# Altium footprint library 7.接插件封装.PcbLib: 201 footprints (part 5 of 13)
Each footprint in its own frame and in the unit in brackets; x right, y up, seen from the top. Pads: shape width x height; smd on the part's side, far side on the other; paste and mask are expansions set on the pad; w line width, h text height; cw(c..) or ccw(c..) is an arc to the next point about the centre after c.
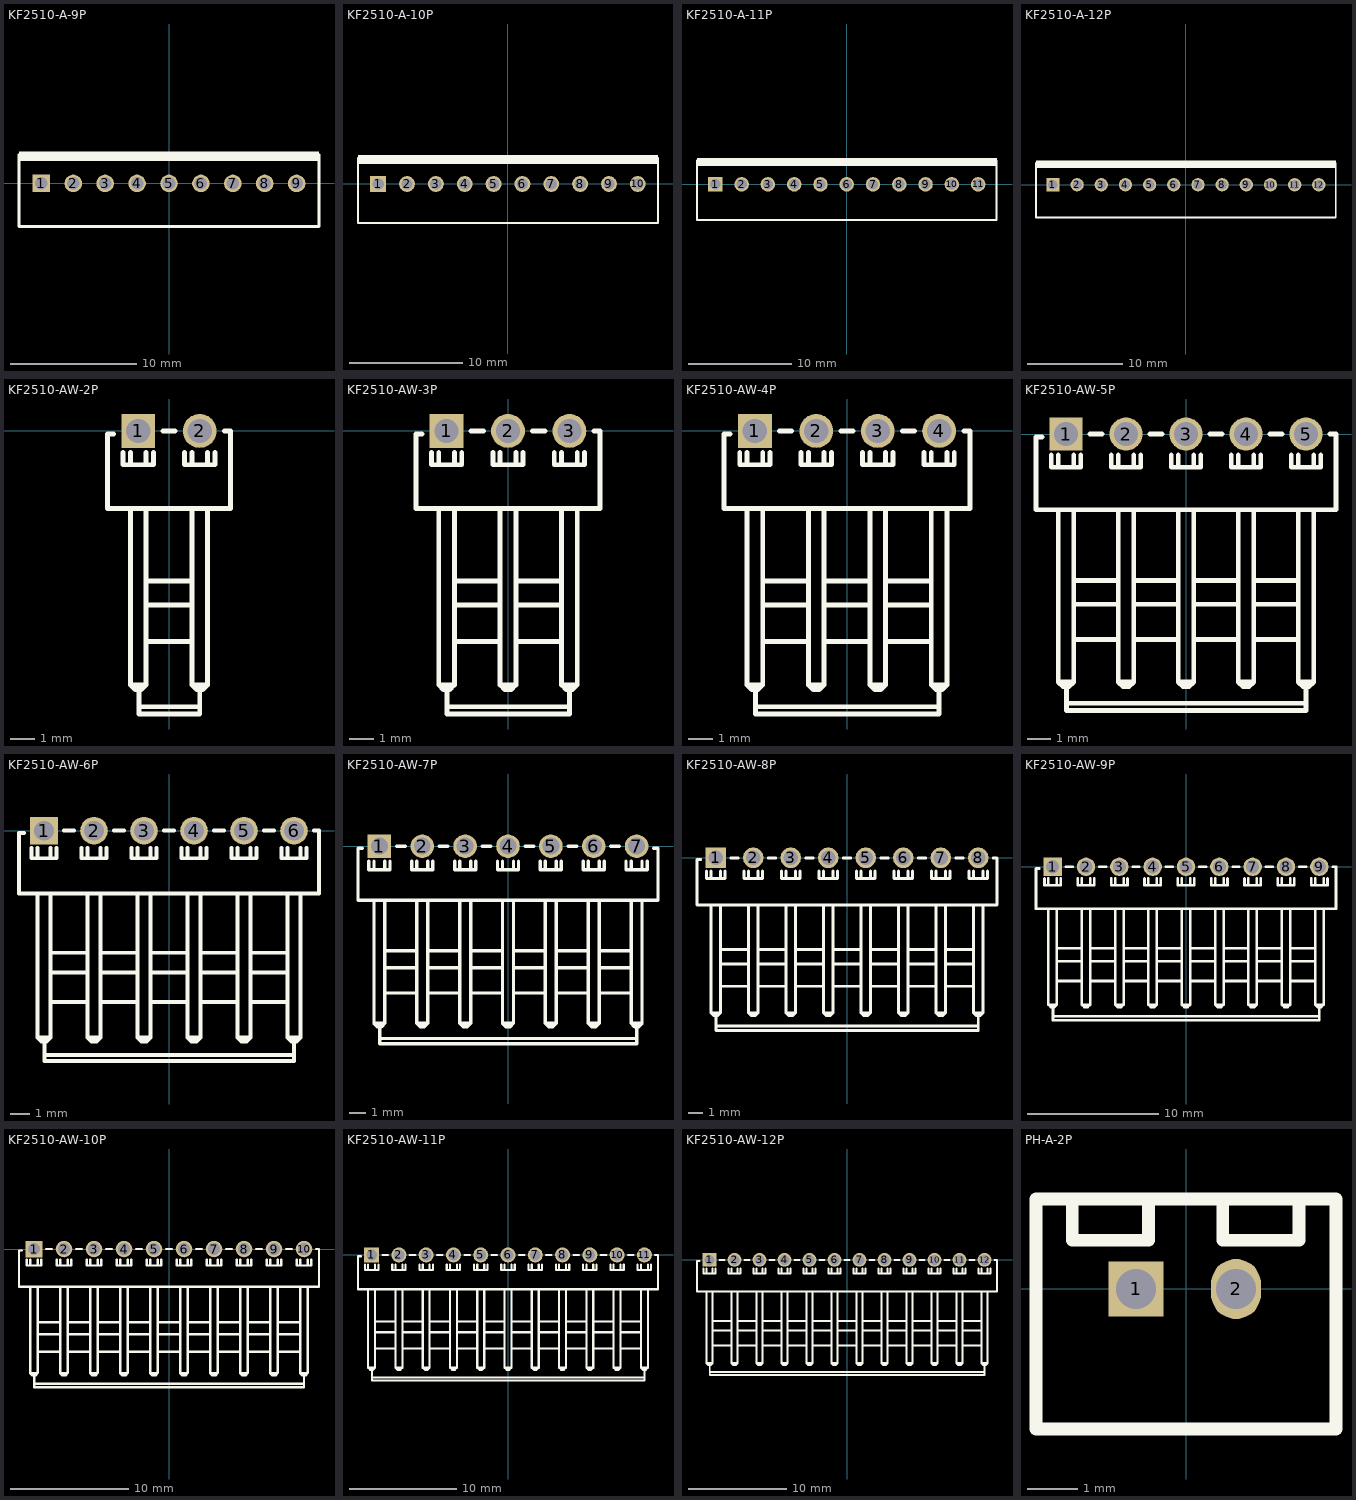
[diagram p4: the footprints below, top view; thin cyan lines are the x and y axes]

## KF2510-A-9P [mm]
pads (9):
  rect 1.4x1.4 hole 1: 1(-10.16,0)
  round 1.4 hole 1: 2(-7.62,0) 3(-5.08,0) 4(-2.54,0) 5(0,0) 6(2.54,0) 7(5.08,0) 8(7.62,0) 9(10.16,0)
Top Overlay:
  rectangle: -11.938,1.778 11.938,2.54
  lines w0.2: -11.938,2.286 -11.938,-3.429 11.938,-3.429 11.938,2.286

## KF2510-A-10P [mm]
pads (10):
  rect 1.4x1.4 hole 1: 1(-11.43,0)
  round 1.4 hole 1: 2(-8.89,0) 3(-6.35,0) 4(-3.81,0) 5(-1.27,0) 6(1.27,0) 7(3.81,0) 8(6.35,0) 9(8.89,0) 10(11.43,0)
Top Overlay:
  rectangle: -13.208,1.778 13.208,2.54
  lines w0.2: -13.208,2.286 -13.208,-3.429 13.208,-3.429 13.208,2.286

## KF2510-A-11P [mm]
pads (11):
  rect 1.4x1.4 hole 1: 1(-12.7,0)
  round 1.4 hole 1: 2(-10.16,0) 3(-7.62,0) 4(-5.08,0) 5(-2.54,0) 6(0,0) 7(2.54,0) 8(5.08,0) 9(7.62,0) 10(10.16,0) 11(12.7,0)
Top Overlay:
  rectangle: -14.478,1.778 14.529,2.54
  lines w0.2: -14.478,2.286 -14.478,-3.429 14.478,-3.429 14.478,2.286

## KF2510-A-12P [mm]
pads (12):
  rect 1.4x1.4 hole 1: 1(-13.97,0)
  round 1.4 hole 1: 2(-11.43,0) 3(-8.89,0) 4(-6.35,0) 5(-3.81,0) 6(-1.27,0) 7(1.27,0) 8(3.81,0) 9(6.35,0) 10(8.89,0) 11(11.43,0) 12(13.97,0)
Top Overlay:
  rectangle: -15.748,1.778 15.773,2.54
  lines w0.2: -15.748,2.286 -15.748,-3.429 15.748,-3.429 15.748,2.286

## KF2510-AW-2P [mm]
pads (2):
  rect 1.4x1.4 hole 1: 1(-1.27,0)
  round 1.4 hole 1: 2(1.27,0)
Top Overlay:
  lines w0.2: -2.286,-0.127 -2.54,-0.127 -2.54,-3.2 2.54,-3.2 2.54,-0.025 ; -1.895,-0.889 -1.895,-1.4 -0.645,-1.4 -0.645,-0.889 ; -1.595,-3.2 -1.595,-10.5 ; -1.595,-1.4 -1.595,-0.889 ; -1.245,-11.4 1.24,-11.4 ; -1.245,-10.7 -1.245,-11.7 1.261,-11.7 ; -0.945,-8.7 0.945,-8.7 ; -0.945,-7.2 0.945,-7.2 ; -0.945,-6.2 0.945,-6.2 ; -0.945,-3.2 -0.945,-10.5 ; -0.945,-1.4 -0.945,-0.889 ; -0.254,0 0.254,0 ; 0.645,-0.889 0.645,-1.4 ; 0.945,-1.4 0.945,-0.889 ; 1.27,-11.702 1.27,-10.592 ; 1.595,-1.4 1.595,-0.889 ; 1.895,-0.889 1.895,-1.4 ; 2.286,0 2.54,0 ; -1.595,-10.5 -1.395,-10.7 -1.145,-10.7 -0.945,-10.5 ; -1.595,-10.5 -0.945,-10.5 ; 0.645,-1.4 1.895,-1.4 ; 0.645,-1.4 1.895,-1.4 ; 0.945,-10.5 1.145,-10.7 ; 0.945,-10.5 1.595,-10.5 ; 0.945,-10.5 0.945,-3.2 0.945,-10.5 ; 0.945,-10.5 1.595,-10.5 ; 0.945,-10.5 1.145,-10.7 ; 1.145,-10.7 1.395,-10.7 ; 1.145,-10.7 1.395,-10.7 ; 1.395,-10.7 1.595,-10.5 ; 1.395,-10.7 1.595,-10.5 ; 1.595,-10.5 1.595,-3.2 1.595,-10.5

## KF2510-AW-3P [mm]
pads (3):
  rect 1.4x1.4 hole 1: 1(-2.54,0)
  round 1.4 hole 1: 2(0,0) 3(2.54,0)
Top Overlay:
  lines w0.2: -3.556,-0.127 -3.81,-0.127 -3.81,-3.2 3.785,-3.2 ; -3.165,-0.889 -3.165,-1.4 -1.915,-1.4 -1.915,-0.889 ; -2.865,-3.2 -2.865,-10.5 ; -2.865,-1.4 -2.865,-0.889 ; -2.515,-11.4 2.51,-11.4 ; -2.515,-10.7 -2.515,-11.7 2.531,-11.7 ; -2.215,-8.7 -0.325,-8.7 ; -2.215,-7.2 -0.325,-7.2 ; -2.215,-6.2 -0.325,-6.2 ; -2.215,-3.2 -2.215,-10.5 ; -2.215,-1.4 -2.215,-0.889 ; -1.524,0 -1.016,0 ; -0.625,-0.889 -0.625,-1.4 0.625,-1.4 0.625,-0.889 ; -0.325,-3.2 -0.325,-10.5 ; -0.325,-1.4 -0.325,-0.889 ; 0.325,-8.7 2.215,-8.7 ; 0.325,-7.2 2.215,-7.2 ; 0.325,-6.2 2.215,-6.2 ; 0.325,-3.2 0.325,-10.5 ; 0.325,-1.4 0.325,-0.889 ; 1.016,0 1.524,0 ; 1.915,-0.889 1.915,-1.4 ; 2.215,-1.4 2.215,-0.889 ; 2.54,-11.702 2.54,-10.592 ; 2.865,-1.4 2.865,-0.889 ; 3.165,-0.889 3.165,-1.4 ; 3.556,0 3.81,0 ; 3.81,-3.2 3.81,-0.025 ; -2.865,-10.5 -2.665,-10.7 -2.415,-10.7 -2.215,-10.5 ; -2.865,-10.5 -2.215,-10.5 ; -0.325,-10.5 -0.125,-10.7 0.125,-10.7 0.325,-10.5 ; -0.325,-10.5 0.325,-10.5 ; 1.915,-1.4 3.165,-1.4 ; 1.915,-1.4 3.165,-1.4 ; 2.215,-10.5 2.415,-10.7 ; 2.215,-10.5 2.865,-10.5 ; 2.215,-10.5 2.215,-3.2 2.215,-10.5 ; 2.215,-10.5 2.865,-10.5 ; 2.215,-10.5 2.415,-10.7 ; 2.415,-10.7 2.665,-10.7 ; 2.415,-10.7 2.665,-10.7 ; 2.665,-10.7 2.865,-10.5 ; 2.665,-10.7 2.865,-10.5 ; 2.865,-10.5 2.865,-3.2 2.865,-10.5

## KF2510-AW-4P [mm]
pads (4):
  rect 1.4x1.4 hole 1: 1(-3.81,0)
  round 1.4 hole 1: 2(-1.27,0) 3(1.27,0) 4(3.81,0)
Top Overlay:
  lines w0.2: -4.826,-0.127 -5.08,-0.127 -5.08,-3.2 5.055,-3.2 ; -4.435,-0.889 -4.435,-1.4 -3.185,-1.4 -3.185,-0.889 ; -4.135,-3.2 -4.135,-10.5 ; -4.135,-1.4 -4.135,-0.889 ; -3.785,-11.4 3.81,-11.4 ; -3.785,-10.7 -3.785,-11.7 3.785,-11.7 ; -3.485,-8.7 -1.595,-8.7 ; -3.485,-7.2 -1.595,-7.2 ; -3.485,-6.2 -1.595,-6.2 ; -3.485,-3.2 -3.485,-10.5 ; -3.485,-1.4 -3.485,-0.889 ; -2.794,0 -2.286,0 ; -1.895,-0.889 -1.895,-1.4 -0.645,-1.4 -0.645,-0.889 ; -1.595,-3.2 -1.595,-10.5 ; -1.595,-1.4 -1.595,-0.889 ; -0.945,-8.7 0.945,-8.7 ; -0.945,-7.2 0.945,-7.2 ; -0.945,-6.2 0.945,-6.2 ; -0.945,-3.2 -0.945,-10.5 ; -0.945,-1.4 -0.945,-0.889 ; -0.254,0 0.254,0 ; 0.645,-0.889 0.645,-1.4 1.895,-1.4 1.895,-0.889 ; 0.945,-3.2 0.945,-10.5 ; 0.945,-1.4 0.945,-0.889 ; 1.595,-8.7 3.485,-8.7 ; 1.595,-7.2 3.485,-7.2 ; 1.595,-6.2 3.485,-6.2 ; 1.595,-3.2 1.595,-10.5 ; 1.595,-1.4 1.595,-0.889 ; 2.286,0 2.794,0 ; 3.185,-0.889 3.185,-1.4 ; 3.485,-1.4 3.485,-0.889 ; 3.81,-11.702 3.81,-10.592 ; 4.135,-1.4 4.135,-0.889 ; 4.435,-0.889 4.435,-1.4 ; 4.826,0 5.08,0 ; 5.08,-3.2 5.08,-0.025 ; -4.135,-10.5 -3.485,-10.5 ; -4.135,-10.5 -3.935,-10.7 -3.685,-10.7 -3.485,-10.5 ; -1.595,-10.5 -0.945,-10.5 ; -1.595,-10.5 -1.395,-10.7 -1.145,-10.7 -0.945,-10.5 ; 0.945,-10.5 1.595,-10.5 ; 0.945,-10.5 1.145,-10.7 1.395,-10.7 1.595,-10.5 ; 3.185,-1.4 4.435,-1.4 ; 3.185,-1.4 4.435,-1.4 ; 3.485,-10.5 3.685,-10.7 ; 3.485,-10.5 4.135,-10.5 ; 3.485,-10.5 3.485,-3.2 3.485,-10.5 ; 3.485,-10.5 4.135,-10.5 ; 3.485,-10.5 3.685,-10.7 ; 3.685,-10.7 3.935,-10.7 ; 3.685,-10.7 3.935,-10.7 ; 3.935,-10.7 4.135,-10.5 ; 3.935,-10.7 4.135,-10.5 ; 4.135,-10.5 4.135,-3.2 4.135,-10.5

## KF2510-AW-5P [mm]
pads (5):
  rect 1.4x1.4 hole 1: 1(-5.08,0)
  round 1.4 hole 1: 2(-2.54,0) 3(0,0) 4(2.54,0) 5(5.08,0)
Top Overlay:
  lines w0.2: -6.096,-0.127 -6.35,-0.127 -6.35,-3.2 6.35,-3.2 6.35,-0.025 ; -5.705,-0.889 -5.705,-1.4 -4.455,-1.4 -4.455,-0.889 ; -5.405,-3.2 -5.405,-10.5 ; -5.405,-1.4 -5.405,-0.889 ; -5.055,-11.4 5.08,-11.4 ; -5.055,-10.7 -5.055,-11.7 5.08,-11.7 ; -4.755,-8.7 -2.865,-8.7 ; -4.755,-7.2 -2.865,-7.2 ; -4.755,-6.2 -2.865,-6.2 ; -4.755,-3.2 -4.755,-10.5 ; -4.755,-1.4 -4.755,-0.889 ; -4.064,0 -3.556,0 ; -3.165,-0.889 -3.165,-1.4 -1.915,-1.4 -1.915,-0.889 ; -2.865,-3.2 -2.865,-10.5 ; -2.865,-1.4 -2.865,-0.889 ; -2.215,-8.7 -0.325,-8.7 ; -2.215,-7.2 -0.325,-7.2 ; -2.215,-6.2 -0.325,-6.2 ; -2.215,-3.2 -2.215,-10.5 ; -2.215,-1.4 -2.215,-0.889 ; -1.524,0 -1.016,0 ; -0.625,-0.889 -0.625,-1.4 0.625,-1.4 0.625,-0.889 ; -0.325,-3.2 -0.325,-10.5 ; -0.325,-1.4 -0.325,-0.889 ; 0.325,-8.7 2.215,-8.7 ; 0.325,-7.2 2.215,-7.2 ; 0.325,-6.2 2.215,-6.2 ; 0.325,-3.2 0.325,-10.5 ; 0.325,-1.4 0.325,-0.889 ; 1.016,0 1.524,0 ; 1.915,-0.889 1.915,-1.4 3.165,-1.4 3.165,-0.889 ; 2.215,-3.2 2.215,-10.5 ; 2.215,-1.4 2.215,-0.889 ; 2.865,-8.7 4.755,-8.7 ; 2.865,-7.2 4.755,-7.2 ; 2.865,-6.2 4.755,-6.2 ; 2.865,-3.2 2.865,-10.5 ; 2.865,-1.4 2.865,-0.889 ; 3.556,0 4.064,0 ; 4.455,-0.889 4.455,-1.4 ; 4.755,-1.4 4.755,-0.889 ; 5.08,-11.702 5.08,-10.592 ; 5.405,-1.4 5.405,-0.889 ; 5.705,-0.889 5.705,-1.4 ; 6.096,0 6.35,0 ; -5.405,-10.5 -5.205,-10.7 -4.955,-10.7 -4.755,-10.5 ; -5.405,-10.5 -4.755,-10.5 ; -2.865,-10.5 -2.665,-10.7 -2.415,-10.7 -2.215,-10.5 ; -2.865,-10.5 -2.215,-10.5 ; -0.325,-10.5 -0.125,-10.7 0.125,-10.7 0.325,-10.5 ; -0.325,-10.5 0.325,-10.5 ; 2.215,-10.5 2.865,-10.5 ; 2.215,-10.5 2.415,-10.7 2.665,-10.7 2.865,-10.5 ; 4.455,-1.4 5.705,-1.4 ; 4.455,-1.4 5.705,-1.4 ; 4.755,-10.5 4.955,-10.7 ; 4.755,-10.5 5.405,-10.5 ; 4.755,-10.5 4.755,-3.2 4.755,-10.5 ; 4.755,-10.5 5.405,-10.5 ; 4.755,-10.5 4.955,-10.7 ; 4.955,-10.7 5.205,-10.7 ; 4.955,-10.7 5.205,-10.7 ; 5.205,-10.7 5.405,-10.5 ; 5.205,-10.7 5.405,-10.5 ; 5.405,-10.5 5.405,-3.2 5.405,-10.5

## KF2510-AW-6P [mm]
pads (6):
  rect 1.4x1.4 hole 1: 1(-6.35,0)
  round 1.4 hole 1: 2(-3.81,0) 3(-1.27,0) 4(1.27,0) 5(3.81,0) 6(6.35,0)
Top Overlay:
  lines w0.2: -7.366,-0.127 -7.62,-0.127 -7.62,-3.2 7.62,-3.2 7.62,-0.025 ; -6.975,-0.889 -6.975,-1.4 -5.725,-1.4 -5.725,-0.889 ; -6.675,-3.2 -6.675,-10.5 ; -6.675,-1.4 -6.675,-0.889 ; -6.325,-11.4 6.35,-11.4 ; -6.325,-10.7 -6.325,-11.7 6.35,-11.7 ; -6.025,-8.7 -4.135,-8.7 ; -6.025,-7.2 -4.135,-7.2 ; -6.025,-6.2 -4.135,-6.2 ; -6.025,-3.2 -6.025,-10.5 ; -6.025,-1.4 -6.025,-0.889 ; -5.334,0 -4.826,0 ; -4.435,-0.889 -4.435,-1.4 -3.185,-1.4 -3.185,-0.889 ; -4.135,-3.2 -4.135,-10.5 ; -4.135,-1.4 -4.135,-0.889 ; -3.485,-8.7 -1.595,-8.7 ; -3.485,-7.2 -1.595,-7.2 ; -3.485,-6.2 -1.595,-6.2 ; -3.485,-3.2 -3.485,-10.5 ; -3.485,-1.4 -3.485,-0.889 ; -2.794,0 -2.286,0 ; -1.895,-0.889 -1.895,-1.4 -0.645,-1.4 -0.645,-0.889 ; -1.595,-3.2 -1.595,-10.5 ; -1.595,-1.4 -1.595,-0.889 ; -0.945,-8.7 0.945,-8.7 ; -0.945,-7.2 0.945,-7.2 ; -0.945,-6.2 0.945,-6.2 ; -0.945,-3.2 -0.945,-10.5 ; -0.945,-1.4 -0.945,-0.889 ; -0.254,0 0.254,0 ; 0.645,-0.889 0.645,-1.4 1.895,-1.4 1.895,-0.889 ; 0.945,-3.2 0.945,-10.5 ; 0.945,-1.4 0.945,-0.889 ; 1.595,-8.7 3.485,-8.7 ; 1.595,-7.2 3.485,-7.2 ; 1.595,-6.2 3.485,-6.2 ; 1.595,-3.2 1.595,-10.5 ; 1.595,-1.4 1.595,-0.889 ; 2.286,0 2.794,0 ; 3.185,-0.889 3.185,-1.4 4.435,-1.4 4.435,-0.889 ; 3.485,-3.2 3.485,-10.5 ; 3.485,-1.4 3.485,-0.889 ; 4.135,-8.7 6.025,-8.7 ; 4.135,-7.2 6.025,-7.2 ; 4.135,-6.2 6.025,-6.2 ; 4.135,-3.2 4.135,-10.5 ; 4.135,-1.4 4.135,-0.889 ; 4.826,0 5.334,0 ; 5.725,-0.889 5.725,-1.4 ; 6.025,-1.4 6.025,-0.889 ; 6.35,-11.702 6.35,-10.592 ; 6.675,-1.4 6.675,-0.889 ; 6.975,-0.889 6.975,-1.4 ; 7.366,0 7.62,0 ; -6.675,-10.5 -6.475,-10.7 -6.225,-10.7 -6.025,-10.5 ; -6.675,-10.5 -6.025,-10.5 ; -4.135,-10.5 -3.935,-10.7 -3.685,-10.7 -3.485,-10.5 ; -4.135,-10.5 -3.485,-10.5 ; -1.595,-10.5 -1.395,-10.7 -1.145,-10.7 -0.945,-10.5 ; -1.595,-10.5 -0.945,-10.5 ; 0.945,-10.5 1.595,-10.5 ; 0.945,-10.5 1.145,-10.7 1.395,-10.7 1.595,-10.5 ; 3.485,-10.5 4.135,-10.5 ; 3.485,-10.5 3.685,-10.7 3.935,-10.7 4.135,-10.5 ; 5.725,-1.4 6.975,-1.4 ; 5.725,-1.4 6.975,-1.4 ; 6.025,-10.5 6.225,-10.7 ; 6.025,-10.5 6.675,-10.5 ; 6.025,-10.5 6.025,-3.2 6.025,-10.5 ; 6.025,-10.5 6.675,-10.5 ; 6.025,-10.5 6.225,-10.7 ; 6.225,-10.7 6.475,-10.7 ; 6.225,-10.7 6.475,-10.7 ; 6.475,-10.7 6.675,-10.5 ; 6.475,-10.7 6.675,-10.5 ; 6.675,-10.5 6.675,-3.2 6.675,-10.5

## KF2510-AW-7P [mm]
pads (7):
  rect 1.4x1.4 hole 1: 1(-7.62,0)
  round 1.4 hole 1: 2(-5.08,0) 3(-2.54,0) 4(0,0) 5(2.54,0) 6(5.08,0) 7(7.62,0)
Top Overlay:
  lines w0.2: -8.636,-0.127 -8.89,-0.127 -8.89,-3.2 8.89,-3.2 8.89,-0.127 8.636,-0.127 ; -8.245,-0.889 -8.245,-1.4 -6.995,-1.4 -6.995,-0.889 ; -7.945,-3.2 -7.945,-10.5 ; -7.945,-1.4 -7.945,-0.889 ; -7.595,-11.4 7.62,-11.4 ; -7.595,-10.7 -7.595,-11.7 7.62,-11.7 ; -7.295,-8.7 -5.405,-8.7 ; -7.295,-7.2 -5.405,-7.2 ; -7.295,-6.2 -5.405,-6.2 ; -7.295,-3.2 -7.295,-10.5 ; -7.295,-1.4 -7.295,-0.889 ; -6.604,0 -6.096,0 ; -5.705,-0.889 -5.705,-1.4 -4.455,-1.4 -4.455,-0.889 ; -5.405,-3.2 -5.405,-10.5 ; -5.405,-1.4 -5.405,-0.889 ; -4.755,-8.7 -2.865,-8.7 ; -4.755,-7.2 -2.865,-7.2 ; -4.755,-6.2 -2.865,-6.2 ; -4.755,-3.2 -4.755,-10.5 ; -4.755,-1.4 -4.755,-0.889 ; -4.064,0 -3.556,0 ; -3.165,-0.889 -3.165,-1.4 -1.915,-1.4 -1.915,-0.889 ; -2.865,-3.2 -2.865,-10.5 ; -2.865,-1.4 -2.865,-0.889 ; -2.215,-8.7 -0.325,-8.7 ; -2.215,-7.2 -0.325,-7.2 ; -2.215,-6.2 -0.325,-6.2 ; -2.215,-3.2 -2.215,-10.5 ; -2.215,-1.4 -2.215,-0.889 ; -1.524,0 -1.016,0 ; -0.625,-0.889 -0.625,-1.4 0.625,-1.4 0.625,-0.889 ; -0.325,-3.2 -0.325,-10.5 ; -0.325,-1.4 -0.325,-0.889 ; 0.325,-8.7 2.215,-8.7 ; 0.325,-7.2 2.215,-7.2 ; 0.325,-6.2 2.215,-6.2 ; 0.325,-3.2 0.325,-10.5 ; 0.325,-1.4 0.325,-0.889 ; 1.016,0 1.524,0 ; 1.915,-0.889 1.915,-1.4 3.165,-1.4 3.165,-0.889 ; 2.215,-3.2 2.215,-10.5 ; 2.215,-1.4 2.215,-0.889 ; 2.865,-8.7 4.755,-8.7 ; 2.865,-7.2 4.755,-7.2 ; 2.865,-6.2 4.755,-6.2 ; 2.865,-3.2 2.865,-10.5 ; 2.865,-1.4 2.865,-0.889 ; 3.556,0 4.064,0 ; 4.455,-0.889 4.455,-1.4 5.705,-1.4 5.705,-0.889 ; 4.755,-3.2 4.755,-10.5 ; 4.755,-1.4 4.755,-0.889 ; 5.405,-8.7 7.295,-8.7 ; 5.405,-7.2 7.295,-7.2 ; 5.405,-6.2 7.295,-6.2 ; 5.405,-3.2 5.405,-10.5 ; 5.405,-1.4 5.405,-0.889 ; 6.096,0 6.604,0 ; 6.995,-0.889 6.995,-1.4 ; 7.295,-1.4 7.295,-0.889 ; 7.62,-11.702 7.62,-10.592 ; 7.945,-1.4 7.945,-0.889 ; 8.245,-0.889 8.245,-1.4 ; -7.945,-10.5 -7.745,-10.7 -7.495,-10.7 -7.295,-10.5 ; -7.945,-10.5 -7.295,-10.5 ; -5.405,-10.5 -5.205,-10.7 -4.955,-10.7 -4.755,-10.5 ; -5.405,-10.5 -4.755,-10.5 ; -2.865,-10.5 -2.665,-10.7 -2.415,-10.7 -2.215,-10.5 ; -2.865,-10.5 -2.215,-10.5 ; -0.325,-10.5 0.325,-10.5 ; -0.325,-10.5 -0.125,-10.7 0.125,-10.7 0.325,-10.5 ; 2.215,-10.5 2.865,-10.5 ; 2.215,-10.5 2.415,-10.7 2.665,-10.7 2.865,-10.5 ; 4.755,-10.5 5.405,-10.5 ; 4.755,-10.5 4.955,-10.7 5.205,-10.7 5.405,-10.5 ; 6.995,-1.4 8.245,-1.4 ; 6.995,-1.4 8.245,-1.4 ; 7.295,-10.5 7.295,-3.2 7.295,-10.5 ; 7.295,-10.5 7.495,-10.7 ; 7.295,-10.5 7.945,-10.5 ; 7.295,-10.5 7.945,-10.5 ; 7.295,-10.5 7.495,-10.7 ; 7.495,-10.7 7.745,-10.7 ; 7.495,-10.7 7.745,-10.7 ; 7.745,-10.7 7.945,-10.5 ; 7.745,-10.7 7.945,-10.5 ; 7.945,-10.5 7.945,-3.2 7.945,-10.5

## KF2510-AW-8P [mm]
pads (8):
  rect 1.4x1.4 hole 1: 1(-8.89,0)
  round 1.4 hole 1: 2(-6.35,0) 3(-3.81,0) 4(-1.27,0) 5(1.27,0) 6(3.81,0) 7(6.35,0) 8(8.89,0)
Top Overlay:
  lines w0.2: -9.906,-0.127 -10.16,-0.127 -10.16,-3.2 10.16,-3.2 10.16,-0.025 ; -9.515,-0.889 -9.515,-1.4 -8.265,-1.4 -8.265,-0.889 ; -9.215,-3.2 -9.215,-10.5 ; -9.215,-1.4 -9.215,-0.889 ; -8.865,-11.4 8.89,-11.4 ; -8.865,-10.7 -8.865,-11.7 8.89,-11.7 ; -8.565,-8.7 -6.675,-8.7 ; -8.565,-7.2 -6.675,-7.2 ; -8.565,-6.2 -6.675,-6.2 ; -8.565,-3.2 -8.565,-10.5 ; -8.565,-1.4 -8.565,-0.889 ; -7.874,0 -7.366,0 ; -6.975,-0.889 -6.975,-1.4 -5.725,-1.4 -5.725,-0.889 ; -6.675,-3.2 -6.675,-10.5 ; -6.675,-1.4 -6.675,-0.889 ; -6.025,-8.7 -4.135,-8.7 ; -6.025,-7.2 -4.135,-7.2 ; -6.025,-6.2 -4.135,-6.2 ; -6.025,-3.2 -6.025,-10.5 ; -6.025,-1.4 -6.025,-0.889 ; -5.334,0 -4.826,0 ; -4.435,-0.889 -4.435,-1.4 -3.185,-1.4 -3.185,-0.889 ; -4.135,-3.2 -4.135,-10.5 ; -4.135,-1.4 -4.135,-0.889 ; -3.485,-8.7 -1.595,-8.7 ; -3.485,-7.2 -1.595,-7.2 ; -3.485,-6.2 -1.595,-6.2 ; -3.485,-3.2 -3.485,-10.5 ; -3.485,-1.4 -3.485,-0.889 ; -2.794,0 -2.286,0 ; -1.895,-0.889 -1.895,-1.4 -0.645,-1.4 -0.645,-0.889 ; -1.595,-3.2 -1.595,-10.5 ; -1.595,-1.4 -1.595,-0.889 ; -0.945,-8.7 0.945,-8.7 ; -0.945,-7.2 0.945,-7.2 ; -0.945,-6.2 0.945,-6.2 ; -0.945,-3.2 -0.945,-10.5 ; -0.945,-1.4 -0.945,-0.889 ; -0.254,0 0.254,0 ; 0.645,-0.889 0.645,-1.4 1.895,-1.4 1.895,-0.889 ; 0.945,-3.2 0.945,-10.5 ; 0.945,-1.4 0.945,-0.889 ; 1.595,-8.7 3.485,-8.7 ; 1.595,-7.2 3.485,-7.2 ; 1.595,-6.2 3.485,-6.2 ; 1.595,-3.2 1.595,-10.5 ; 1.595,-1.4 1.595,-0.889 ; 2.286,0 2.794,0 ; 3.185,-0.889 3.185,-1.4 4.435,-1.4 4.435,-0.889 ; 3.485,-3.2 3.485,-10.5 ; 3.485,-1.4 3.485,-0.889 ; 4.135,-8.7 6.025,-8.7 ; 4.135,-7.2 6.025,-7.2 ; 4.135,-6.2 6.025,-6.2 ; 4.135,-3.2 4.135,-10.5 ; 4.135,-1.4 4.135,-0.889 ; 4.826,0 5.334,0 ; 5.725,-0.889 5.725,-1.4 6.975,-1.4 6.975,-0.889 ; 6.025,-3.2 6.025,-10.5 ; 6.025,-1.4 6.025,-0.889 ; 6.675,-8.7 8.565,-8.7 ; 6.675,-7.2 8.565,-7.2 ; 6.675,-6.2 8.565,-6.2 ; 6.675,-3.2 6.675,-10.5 ; 6.675,-1.4 6.675,-0.889 ; 7.366,0 7.874,0 ; 8.265,-0.889 8.265,-1.4 ; 8.565,-1.4 8.565,-0.889 ; 8.89,-11.702 8.89,-10.592 ; 9.215,-1.4 9.215,-0.889 ; 9.515,-0.889 9.515,-1.4 ; 9.906,0 10.16,0 ; -9.215,-10.5 -9.015,-10.7 -8.765,-10.7 -8.565,-10.5 ; -9.215,-10.5 -8.565,-10.5 ; -6.675,-10.5 -6.475,-10.7 -6.225,-10.7 -6.025,-10.5 ; -6.675,-10.5 -6.025,-10.5 ; -4.135,-10.5 -3.935,-10.7 -3.685,-10.7 -3.485,-10.5 ; -4.135,-10.5 -3.485,-10.5 ; -1.595,-10.5 -0.945,-10.5 ; -1.595,-10.5 -1.395,-10.7 -1.145,-10.7 -0.945,-10.5 ; 0.945,-10.5 1.595,-10.5 ; 0.945,-10.5 1.145,-10.7 1.395,-10.7 1.595,-10.5 ; 3.485,-10.5 4.135,-10.5 ; 3.485,-10.5 3.685,-10.7 3.935,-10.7 4.135,-10.5 ; 6.025,-10.5 6.225,-10.7 6.475,-10.7 6.675,-10.5 ; 6.025,-10.5 6.675,-10.5 ; 8.265,-1.4 9.515,-1.4 ; 8.265,-1.4 9.515,-1.4 ; 8.565,-10.5 8.565,-3.2 8.565,-10.5 ; 8.565,-10.5 8.765,-10.7 ; 8.565,-10.5 9.215,-10.5 ; 8.565,-10.5 9.215,-10.5 ; 8.565,-10.5 8.765,-10.7 ; 8.765,-10.7 9.015,-10.7 ; 8.765,-10.7 9.015,-10.7 ; 9.015,-10.7 9.215,-10.5 ; 9.015,-10.7 9.215,-10.5 ; 9.215,-10.5 9.215,-3.2 9.215,-10.5

## KF2510-AW-9P [mm]
pads (9):
  rect 1.4x1.4 hole 1: 1(-10.16,0)
  round 1.4 hole 1: 2(-7.62,0) 3(-5.08,0) 4(-2.54,0) 5(0,0) 6(2.54,0) 7(5.08,0) 8(7.62,0) 9(10.16,0)
Top Overlay:
  lines w0.2: -11.176,-0.127 -11.43,-0.127 -11.43,-3.2 11.43,-3.2 11.43,-0.025 ; -10.785,-0.889 -10.785,-1.4 -9.535,-1.4 -9.535,-0.889 ; -10.485,-3.2 -10.485,-10.5 ; -10.485,-1.4 -10.485,-0.889 ; -10.135,-11.4 10.16,-11.4 ; -10.135,-10.7 -10.135,-11.7 10.16,-11.7 ; -9.835,-8.7 -7.945,-8.7 ; -9.835,-7.2 -7.945,-7.2 ; -9.835,-6.2 -7.945,-6.2 ; -9.835,-3.2 -9.835,-10.5 ; -9.835,-1.4 -9.835,-0.889 ; -9.144,0 -8.636,0 ; -8.245,-0.889 -8.245,-1.4 -6.995,-1.4 -6.995,-0.889 ; -7.945,-3.2 -7.945,-10.5 ; -7.945,-1.4 -7.945,-0.889 ; -7.295,-8.7 -5.405,-8.7 ; -7.295,-7.2 -5.405,-7.2 ; -7.295,-6.2 -5.405,-6.2 ; -7.295,-3.2 -7.295,-10.5 ; -7.295,-1.4 -7.295,-0.889 ; -6.604,0 -6.096,0 ; -5.705,-0.889 -5.705,-1.4 -4.455,-1.4 -4.455,-0.889 ; -5.405,-3.2 -5.405,-10.5 ; -5.405,-1.4 -5.405,-0.889 ; -4.755,-8.7 -2.865,-8.7 ; -4.755,-7.2 -2.865,-7.2 ; -4.755,-6.2 -2.865,-6.2 ; -4.755,-3.2 -4.755,-10.5 ; -4.755,-1.4 -4.755,-0.889 ; -4.064,0 -3.556,0 ; -3.165,-0.889 -3.165,-1.4 -1.915,-1.4 -1.915,-0.889 ; -2.865,-3.2 -2.865,-10.5 ; -2.865,-1.4 -2.865,-0.889 ; -2.215,-8.7 -0.325,-8.7 ; -2.215,-7.2 -0.325,-7.2 ; -2.215,-6.2 -0.325,-6.2 ; -2.215,-3.2 -2.215,-10.5 ; -2.215,-1.4 -2.215,-0.889 ; -1.524,0 -1.016,0 ; -0.625,-0.889 -0.625,-1.4 0.625,-1.4 0.625,-0.889 ; -0.325,-3.2 -0.325,-10.5 ; -0.325,-1.4 -0.325,-0.889 ; 0.325,-8.7 2.215,-8.7 ; 0.325,-7.2 2.215,-7.2 ; 0.325,-6.2 2.215,-6.2 ; 0.325,-3.2 0.325,-10.5 ; 0.325,-1.4 0.325,-0.889 ; 1.016,0 1.524,0 ; 1.915,-0.889 1.915,-1.4 3.165,-1.4 3.165,-0.889 ; 2.215,-3.2 2.215,-10.5 ; 2.215,-1.4 2.215,-0.889 ; 2.865,-8.7 4.755,-8.7 ; 2.865,-7.2 4.755,-7.2 ; 2.865,-6.2 4.755,-6.2 ; 2.865,-3.2 2.865,-10.5 ; 2.865,-1.4 2.865,-0.889 ; 3.556,0 4.064,0 ; 4.455,-0.889 4.455,-1.4 5.705,-1.4 5.705,-0.889 ; 4.755,-3.2 4.755,-10.5 ; 4.755,-1.4 4.755,-0.889 ; 5.405,-8.7 7.295,-8.7 ; 5.405,-7.2 7.295,-7.2 ; 5.405,-6.2 7.295,-6.2 ; 5.405,-3.2 5.405,-10.5 ; 5.405,-1.4 5.405,-0.889 ; 6.096,0 6.604,0 ; 6.995,-0.889 6.995,-1.4 8.245,-1.4 8.245,-0.889 ; 7.295,-3.2 7.295,-10.5 ; 7.295,-1.4 7.295,-0.889 ; 7.945,-8.7 9.835,-8.7 ; 7.945,-7.2 9.835,-7.2 ; 7.945,-6.2 9.835,-6.2 ; 7.945,-3.2 7.945,-10.5 ; 7.945,-1.4 7.945,-0.889 ; 8.636,0 9.144,0 ; 9.535,-0.889 9.535,-1.4 ; 9.835,-1.4 9.835,-0.889 ; 10.16,-11.702 10.16,-10.592 ; 10.485,-1.4 10.485,-0.889 ; 10.785,-0.889 10.785,-1.4 ; 11.176,0 11.43,0 ; -10.485,-10.5 -10.285,-10.7 -10.035,-10.7 -9.835,-10.5 ; -10.485,-10.5 -9.835,-10.5 ; -7.945,-10.5 -7.745,-10.7 -7.495,-10.7 -7.295,-10.5 ; -7.945,-10.5 -7.295,-10.5 ; -5.405,-10.5 -5.205,-10.7 -4.955,-10.7 -4.755,-10.5 ; -5.405,-10.5 -4.755,-10.5 ; -2.865,-10.5 -2.215,-10.5 ; -2.865,-10.5 -2.665,-10.7 -2.415,-10.7 -2.215,-10.5 ; -0.325,-10.5 0.325,-10.5 ; -0.325,-10.5 -0.125,-10.7 0.125,-10.7 0.325,-10.5 ; 2.215,-10.5 2.865,-10.5 ; 2.215,-10.5 2.415,-10.7 2.665,-10.7 2.865,-10.5 ; 4.755,-10.5 5.405,-10.5 ; 4.755,-10.5 4.955,-10.7 5.205,-10.7 5.405,-10.5 ; 7.295,-10.5 7.945,-10.5 ; 7.295,-10.5 7.495,-10.7 7.745,-10.7 7.945,-10.5 ; 9.535,-1.4 10.785,-1.4 ; 9.535,-1.4 10.785,-1.4 ; 9.835,-10.5 10.035,-10.7 ; 9.835,-10.5 10.485,-10.5 ; 9.835,-10.5 9.835,-3.2 9.835,-10.5 ; 9.835,-10.5 10.485,-10.5 ; 9.835,-10.5 10.035,-10.7 ; 10.035,-10.7 10.285,-10.7 ; 10.035,-10.7 10.285,-10.7 ; 10.285,-10.7 10.485,-10.5 ; 10.285,-10.7 10.485,-10.5 ; 10.485,-10.5 10.485,-3.2 10.485,-10.5

## KF2510-AW-10P [mm]
pads (10):
  rect 1.4x1.4 hole 1: 1(-11.43,0)
  round 1.4 hole 1: 2(-8.89,0) 3(-6.35,0) 4(-3.81,0) 5(-1.27,0) 6(1.27,0) 7(3.81,0) 8(6.35,0) 9(8.89,0) 10(11.43,0)
Top Overlay:
  drawing of 162 lines, arcs and shapes, not listed

## KF2510-AW-11P [mm]
pads (11):
  rect 1.4x1.4 hole 1: 1(-12.7,0)
  round 1.4 hole 1: 2(-10.16,0) 3(-7.62,0) 4(-5.08,0) 5(-2.54,0) 6(0,0) 7(2.54,0) 8(5.08,0) 9(7.62,0) 10(10.16,0) 11(12.7,0)
Top Overlay:
  drawing of 177 lines, arcs and shapes, not listed

## KF2510-AW-12P [mm]
pads (12):
  rect 1.4x1.4 hole 1: 1(-13.97,0)
  round 1.4 hole 1: 2(-11.43,0) 3(-8.89,0) 4(-6.35,0) 5(-3.81,0) 6(-1.27,0) 7(1.27,0) 8(3.81,0) 9(6.35,0) 10(8.89,0) 11(11.43,0) 12(13.97,0)
Top Overlay:
  drawing of 192 lines, arcs and shapes, not listed

## PH-A-2P [mm]
height 6
pads (2):
  rect 1.1x1.1 hole 0.8: 1(-1,0)
  oval 1x1.2 hole 0.8: 2(1,0)
Top Overlay:
  lines w0.254: -2.274,1.759 -2.274,0.975 -0.75,0.975 -0.75,1.759 ; 0.734,1.759 0.734,0.975 2.258,0.975 2.258,1.759 ; -3,-2.8 3,-2.8 3,1.8 -3,1.8 -3,-2.8